# Altium schematic symbol library Receiver_Library.SchLib: 34 symbols
Pins are listed as number, name and electrical type; pins without a type are passive.

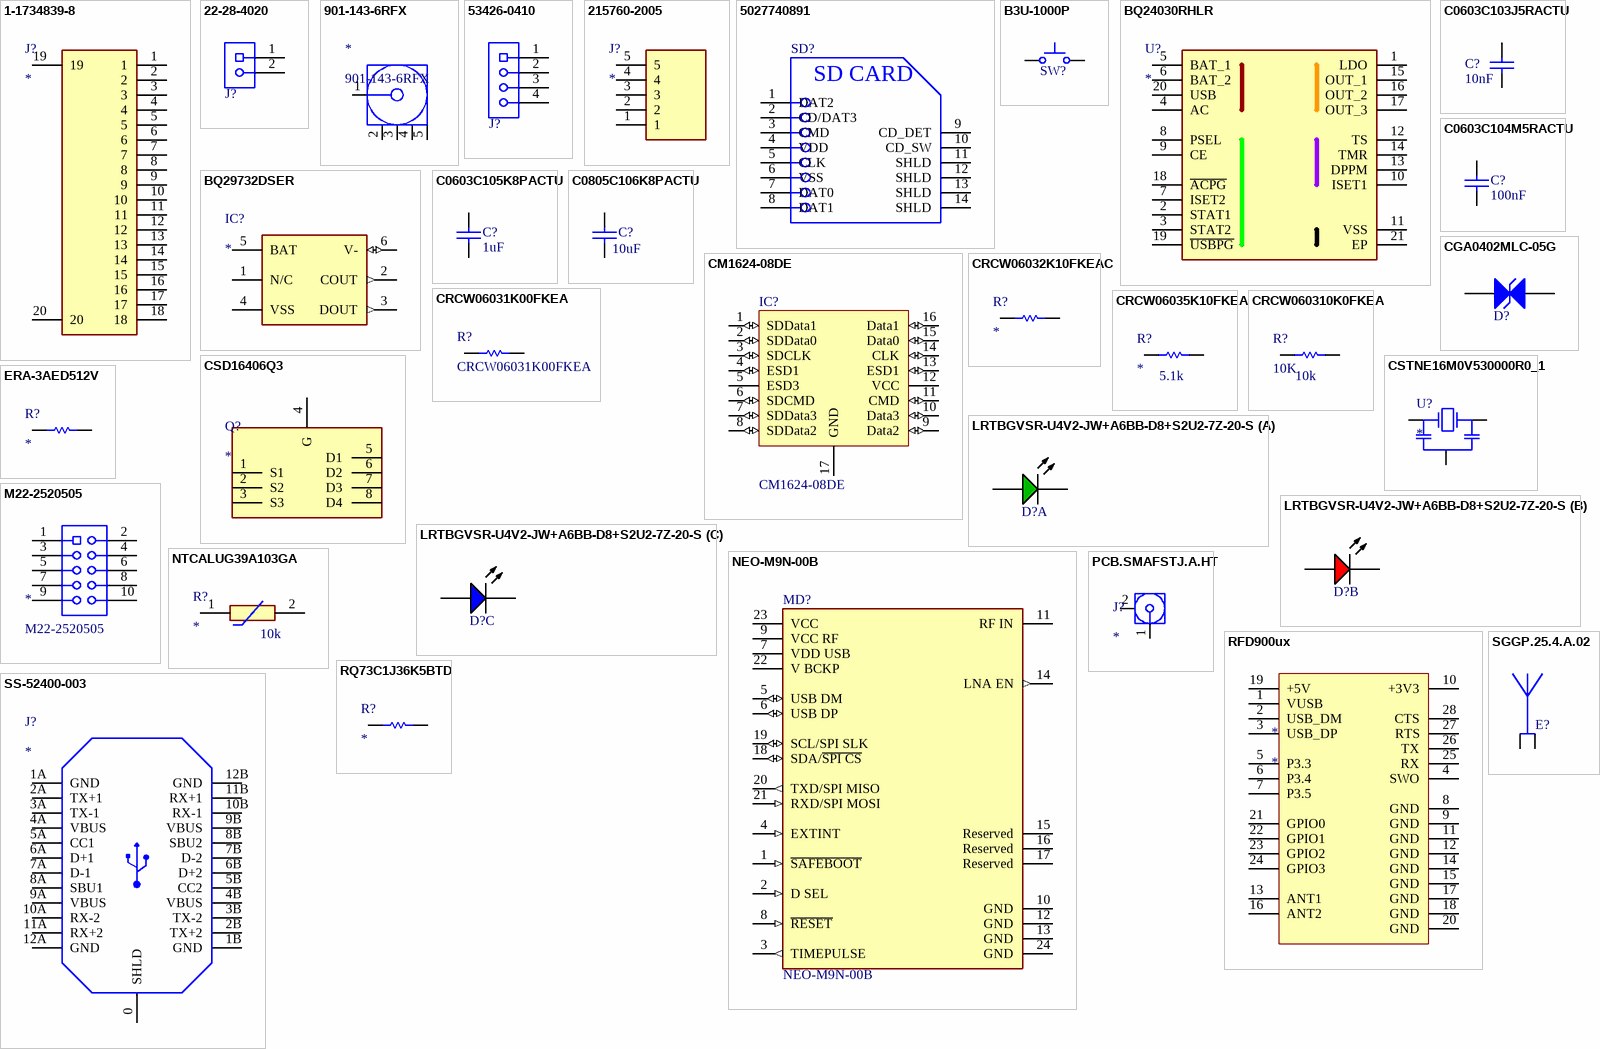
[diagram p0: symbols 1-1734839-8 to SS-52400-003]

## 1-1734839-8
designator J?
Connector; Manufacturer_Name: TE Connectivity; Manufacturer_Part_Number: 1-1734839-8; Datasheet Link: https://www.te.com/commerce/DocumentDelivery/DDEController?Action=showdoc&DocId=Customer+Drawing%7F1734839%7FC%7Fpdf%7FEnglish%7FENG_CD_1734839_C_C_1734839.pdf%7F1-1734839-8; Height: 2.05mm; Mouser Part Number: 571-1-1734839-8; Mouser Price/Stock: https://www.mouser.co.uk/ProductDetail/TE-Connectivity/1-1734839-8?qs=sXy4Dx%2FMQpOw5EO3e3m3KA%3D%3D; Arrow Part Number: 1-1734839-8; Arrow Price/Stock: https://www.arrow.com/en/products/1-1734839-8/te-connectivity
footprint 117348398
pins: 1, 2, 3, 4, 5, 6, 7, 8, 9, 10, 11, 12, 13, 14, 15, 16, 17, 18, 19, 20

## 22-28-4020
designator J?  (value not drawn)
KK 254 Breakaway Header, Vertical, 2 Circuits, Tin (Sn) Plating, Mating Pin Length 6.09mm 2 POS; Number of Positions: 2; Voltage Rating (DC): 250V; Contact Resistance: 20mR; Gender: Male; Connector Type: Male Pin; Glow Wire Compliant: Non-compliant; Pitch: 2.54mm; Current Rating: 4A; Orientation: Straight; Flammability Rating: UL94 V-0; Termination: Solder; Mount: Through Hole; Housing Color: Black; Contact Mating Length: 0.24inch; Min Operating Temperature: 0°C; Package Quantity: 1; Color: Black; Voltage Rating: 250V; REACH SVHC: Unknown; Contact Plating: Tin; Packaging: Bulk; Max Voltage Rating (DC): 250V; Max Operating Temperature: 75°C; Number of Circuits: 2; Housing Material: Nylon; Number of Contacts: 2; Lead Free: Lead Free; Radiation Hardening: No; Number of Rows: 1; Contact Material: Brass,Bronze; Mounting Technology: Through Hole; Depth: 2.49mm; Max Voltage Rating (AC): 250V; Series: KK® 42375; Contact Type: Male Pin
footprint 22-28-4020
pins: 1, 2

## 901-143-6RFX
designator *
SMA Connector Jack, Female Socket 50 Ohms Through Hole, Right Angle Solder
footprint 903-143-6RFX
pins: 1, 2, 3, 4, 5

## 53426-0410
designator J?  (value not drawn)
2.50mm Pitch Mini-Lock™ Wire-to-Board Header, Right Angle, Friction and Positive Lock, 4 Circuits; Gender: Male; Current Rating: 3A; Pitch: 2.5mm; Number of Positions: 4; Glow Wire Compliant: Non-compliant; Contact Resistance: 20mR; Voltage Rating: 250V; Packaging: Tray; Min Operating Temperature: -40°C; Number of Rows: 1; Case/Package: 0410; Housing Material: Polyester; Orientation: Right Angle; Color: White; Series: 53426; Contact Material: Bronze; Radiation Hardening: No; Number of Circuits: 4; REACH SVHC: No SVHC; Number of Contacts: 4; Contact Plating: Tin; Package Quantity: 1000; Termination: Through Hole; Max Operating Temperature: 105°C; Contact Gender: Male; Mount: Through Hole; RoHS Compliant: Yes
footprint 53426-0410
pins: 1, 2, 3, 4

## 215760-2005
designator J?
Connector; Manufacturer_Name: Molex; Manufacturer_Part_Number: 215760-2005; Datasheet Link: https://www.molex.com/pdm_docs/sd/2157601002_sd.pdf; Height: 5.87mm; Mouser Part Number: 538-215760-2005; Mouser Price/Stock: https://www.mouser.co.uk/ProductDetail/Molex/215760-2005?qs=pBJMDPsKWf1lOu66Lw3MIg%3D%3D
footprint 215760-YY05
pins: 1, 2, 3, 4, 5

## 5027740891
designator SD?  (value not drawn)
MOLEX   502774-0891.   MEMORY CARD CONNECTOR, MICROSD, 8POS; Current Rating: 500mA; Number of Contacts: 8; Pitch: 1.1mm; Gender: Male; Max Voltage Rating (DC): 1.01kV; Voltage Rating (AC): 10V; Max Operating Temperature: 85°C; Radiation Hardening: No; Depth: 16mm; Number of Rows: 1; Mount: Surface Mount,Reverse; Height: 1.8mm; Min Operating Temperature: -25°C; Length: 14.6mm; Package Quantity: 1; Contact Material: Copper Alloy,Copper; Housing Material: Polymer; Width: 1.8mm; Contact Plating: Gold; Orientation: Right Angle; Number of Circuits: 8; REACH SVHC: Unknown; Packaging: Tape and Reel; Halogen Free: Low Halogen; Termination: Solder; Connector Type: Connector
footprint 5027740891-Footprint-1
pins: 1 DAT2, 2 CD/DAT3, 3 CMD, 4 VDD, 5 CLK, 6 VSS, 7 DAT0, 8 DAT1, 9 CD_DET, 10 CD_SW, 11 SHLD, 12 SHLD, 13 SHLD, 14 SHLD
text: SD CARD

## B3U-1000P
designator SW?  (value not drawn)
SWITCH TACTILE SPST-NO 0.05A 12V; Actuator Length: 0.4mm; Contact Resistance: 100mR; Mechanical Life: 200000Cycles; Contact Current Rating: 50mA; Illumination Type: Non-Illuminated,Illuminated; Actuator Type: Standard; Ratings: Dust Proof,IP40; Switch Travel: 0.15mm; Throw Configuration: SPST; Operating Force: 1.5N; Switch Function: Off-Mom; Width: 3mm; REACH SVHC: Unknown; Max Voltage Rating (DC): 12V; Packaging: Tape and Reel; Mount: Surface Mount; Max Operating Temperature: 70°C; Min Operating Temperature: -25°C; Length: 4mm; Depth: 2.5mm; Termination: SMD/SMT; Contact Material: Silver; Weight: 0.000776oz; Current Rating: 50mA; Package Quantity: 1; Max Current Rating: 50mA; Lead Free: Lead Free; Voltage Rating (DC): 12V; Electrical Life: 200000Cycles; Insulation Resistance: 100MR; Orientation: Straight; Height: 1.2mm
footprint B3U-1000P
pins: 1, 2

## BQ24030RHLR
designator U?
Battery Management Charger w/Dynamic Power-Path Mngmnt; Manufacturer_Name: Texas Instruments; Manufacturer_Part_Number: BQ24030RHLR; Datasheet Link: http://www.ti.com/lit/gpn/bq24030; Mouser Part Number: 595-BQ24030RHLR; Mouser Price/Stock: https://www.mouser.co.uk/ProductDetail/Texas-Instruments/BQ24030RHLR/?qs=%252BvKcWiXw%252BzShgRCa3gfG7Q%3D%3D; Arrow Part Number: BQ24030RHLR; Arrow Price/Stock: https://www.arrow.com/en/products/bq24030rhlr/texas-instruments
footprint BQ51050BRHLR
pins: 1 LDO, 2 STAT1, 3 STAT2, 4 AC, 5 BAT_1, 6 BAT_2, 7 ISET2, 8 PSEL, 9 CE, 10 ISET1, 11 VSS, 12 TS, 13 DPPM, 14 TMR, 15 OUT_1, 16 OUT_2, 17 OUT_3, 18 ~{ACPG}, 19 ~{USBPG}, 20 USB, 21 EP

## BQ29732DSER
designator IC?
Integrated Circuit; Manufacturer_Name: Texas Instruments; Manufacturer_Part_Number: BQ29732DSER; Datasheet Link: http://www.ti.com/lit/gpn/bq2973; Height: 0.8mm; Mouser Part Number: 595-BQ29732DSER; Mouser Price/Stock: https://www.mouser.co.uk/ProductDetail/Texas-Instruments/BQ29732DSER?qs=HjC056NR38EUdABiMgTGbg%3D%3D; Arrow Part Number: BQ29732DSER; Arrow Price/Stock: https://www.arrow.com/en/products/bq29732dser/texas-instruments?region=nac
footprint SON50P150X150X80-6N
pins: 1 N/C, 2 COUT (out), 3 DOUT (out), 4 VSS (power), 5 BAT (power), 6 V- (io)

## C0603C103J5RACTU
designator C?  value 10nF  (hidden comment: C0603C103J5RACTU)
Cap Ceramic 0.01uF 50V X7R 5% SMD 0603 125C Paper T/R; Dielectric: X7R; Case/Package: 0603; Height: 0.8mm; Capacitance: 10nF; Depth: 0.8mm; Length: 1.6mm; Min Operating Temperature: -55°C; Radiation Hardening: No; Packaging: Tape and Reel; Max Operating Temperature: 125°C; Mount: Surface Mount; Tolerance: 5%; JLC_PN: C57112
footprint CAPC1608X10N
pins: 1, 2

## C0603C104M5RACTU
designator C?  value 100nF  (hidden comment: C0603C104M5RACTU)
Cap Ceramic 0.1uF 50V X7R 20% SMD 0603 125C T/R; Dissipation Factor: 2.5%; Min Operating Temperature: -55°C; Contact Plating: Tin,Matte; Height: 0.8mm; Voltage Rating: 50V; REACH SVHC: No SVHC; Max Operating Temperature: 125°C; Termination: SMD/SMT; Package Quantity: 1; Capacitance: 100nF; Packaging: Tape and Reel; Width: 0.031inch; Depth: 0.8mm; Dielectric: X7R; Tolerance: 20%; Lead Pitch: 0.7mm; Thickness: 0.034inch; Length: 1.6mm; Dielectric Material: Ceramic; Radiation Hardening: No; Voltage Rating (DC): 50V; Case/Package: 0603; Case Code (Metric): 1608; Mount: Surface Mount,PCB; Case Code (Imperial): 0603; JLC_PN: C14663
footprint CAPC1608X10N
pins: 1, 2

## C0603C105K8PACTU
designator C?  value 1uF  (hidden comment: C0603C105K8PACTU)
Cap Ceramic 1uF 10V X5R 10% SMD 0603 85°C Paper T/R; Capacitance: 1uF; Voltage Rating (DC): 10V; Case/Package: 0603; Height: 0.8mm; Tolerance: 10%; Width: 0.031inch; Lead Free: Lead Free; Mount: Surface Mount; Length: 1.6mm; Number of Pins: 2; Radiation Hardening: No; Dielectric: X5R; Voltage: 10V; Depth: 0.8mm; Weight: 7.1E-05oz; REACH SVHC: No SVHC; Package Quantity: 1; Max Operating Temperature: 85°C; Case Code (Imperial): 0603; Thickness: 0.035inch; Min Operating Temperature: -55°C; Dielectric Material: Ceramic; Case Code (Metric): 1608; Packaging: Tape and Reel; Voltage Rating: 10V; Termination: SMD/SMT
footprint CAPC1608X10N (Chip Capacitor, 2-Leads, Body 1.60x0.80mm, IPC Medium Density)
pins: 1, 2

## C0805C106K8PACTU
designator C?  value 10uF  (hidden comment: C0805C106K8PACTU)
CAP CER 10UF 10V X5R 0805; Dielectric Material: Ceramic; Dissipation Factor: 10%; Width: 1.2mm; Number of Pins: 2; Voltage: 10V; Packaging: Tape and Reel; Dielectric: X5R; Mount: Surface Mount; Case/Package: 0805; Thickness: 0.055inch; Package Quantity: 1; Voltage Rating (DC): 10V; Case Code (Imperial): 0805; Tolerance: 10%; Max Operating Temperature: 85°C; Radiation Hardening: No; Termination: SMD/SMT; Height: 1.25mm; Voltage Rating: 10V; Capacitance: 10uF; Length: 2mm; Min Operating Temperature: -55°C; Depth: 1.25mm; REACH SVHC: No SVHC; Case Code (Metric): 2012; Contact Plating: Tin,Matte; JLC_PN: C15850
footprint CAPC2012X14N
pins: 1, 2

## CGA0402MLC-05G
designator D?  (value not drawn)
ESD Suppressor TVS 5V Automotive 2-Pin Case 0402 T/R; Direction: Bidirectional; Number of Circuits: 1; Capacitance: 0.2pF; Clamping Voltage: 30V; Element Configuration: Single; ESD Protection: Yes; Leakage Current: 10nA; Max Reverse Leakage Current: 5nA; Package Quantity: 10000; Operating Supply Voltage: 5V; Max Operating Temperature: 125°C; Max Voltage Rating (DC): 5V; Mount: Surface Mount; Depth: 0.5mm; Length: 1mm; Width: 0.5mm; Voltage Rating (DC): 5V; Number of Pins: 2; Termination: SMD/SMT; Min Operating Temperature: -55°C; REACH SVHC: No SVHC; Case/Package: 0402; Working Voltage: 5V; Radiation Hardening: No; Height: 0.34mm; Packaging: Tape and Reel; Contact Plating: Tin; Case Code (Imperial): 0402; Case Code (Metric): 1005; Current Rating: 5nA
footprint DIOC1005X04N (Chip Diode, 2-Leads, Body 1.00x0.50mm, IPC Medium Density)
footprint DIOC1005X04N
pins: 1, 2

## CM1624-08DE
designator IC?
EMI Filter Flat Style SMD T/R; Capacitance: 20pF; Operating Supply Voltage: 5V; ESD Protection: Yes; Clamping Voltage: 9V; DC Resistance (DCR): 40R; Number of Channels: 6; Number of Lines: 8; Direction: Bidirectional; Depth: 1.45mm; Length: 3.4mm; Height: 0.022inch; Halogen Free: Halogen Free; REACH SVHC: No SVHC; Contact Plating: Tin,Matte; Number of Pins: 16; Termination: Flat; Package Quantity: 1; Min Operating Temperature: -40°C; Lead Free: Lead Free; Packaging: Tape and Reel; Case/Package: DFN; Max Operating Temperature: 85°C; Width: 1.35mm
footprint SON40P140X55_HS-17N
pins: 1 SDData1 (io), 2 SDData0 (io), 3 SDCLK (io), 4 ESD1 (io), 5 ESD3, 6 SDCMD (io), 7 SDData3 (io), 8 SDData2 (io), 9 Data2 (io), 10 Data3 (io), 11 CMD (io), 12 VCC (power), 13 ESD1 (io), 14 CLK (io), 15 Data0 (io), 16 Data1 (io), 17 GND (power)

## CRCW06031K00FKEA
designator R?
VISHAY - CRCW06031K00FKEA - SMD Chip Resistor, 0603 [1608 Metric], 1 kohm, CRCW e3 Series, 75 V, Thick Film, 100 mW; Value: 5.1k
footprint 0603 (Generic 0603 Footprint)
pins: 1, 2

## CRCW06032K10FKEAC
designator R?
Thick Film Resistors - SMD 1/10Watt 2.1Kohms 1%; Value: 2.1k
footprint 0603 (Generic 0603 Footprint)
pins: 1, 2

## CRCW06035K10FKEA
designator R?  value 5.1k
Res Thick Film 0603 5.1K Ohm 1% 1/10W ±100ppm/°C Molded SMD SMD Paper T/R
footprint 0603 (Generic 0603 Footprint)
pins: 1, 2

## CRCW060310K0FKEA
designator R?, comment 10K
RES SMD 10K OHM 0.5% 1/10W 0603; Value: 10k
footprint 0603 (Generic 0603 Footprint)
pins: 1, 2

## CSD16406Q3
designator Q?
MOSFET (N-Channel); Manufacturer_Name: Texas Instruments; Manufacturer_Part_Number: CSD16406Q3; Datasheet Link: http://www.ti.com/lit/gpn/csd16406q3; Mouser Part Number: 595-CSD16406Q3; Mouser Price/Stock: https://www.mouser.co.uk/ProductDetail/Texas-Instruments/CSD16406Q3?qs=SuDOdTVxq4Wogv4PDdDFZA%3D%3D; Arrow Part Number: CSD16406Q3; Arrow Price/Stock: https://www.arrow.com/en/products/csd16406q3/texas-instruments?region=nac
footprint DQG_VSON-CLIP
pins: 1 S1, 2 S2, 3 S3, 4 G, 5 D1, 6 D2, 7 D3, 8 D4

## CSTNE16M0V530000R0_1
designator U?
Resonators 16.0 MHZ 15PF; Manufacturer_Name: Murata Electronics; Manufacturer_Part_Number: CSTNE16M0V530000R0; Datasheet Link: https://www.murata.com/products/productdata/8801160822814/SPEC-CSTNE16M0V530000R0.pdf; Height: 1mm; Mouser Part Number: 81-CSTNE16M0V530000R; Mouser Price/Stock: https://www.mouser.co.uk/ProductDetail/Murata-Electronics/CSTNE16M0V530000R0?qs=y6ZabgHbY%252BzQcQICtMt%2F3w%3D%3D; Arrow Part Number: CSTNE16M0V530000R0; Arrow Price/Stock: https://www.arrow.com/en/products/cstne16m0v530000r0/murata-manufacturing?region=nac
footprint FP-CSTNE16M0V530000R0-MFG
pins: 1 INPUT, 2 GND, 3 OUT

## ERA-3AED512V
designator R?
Thin Film Resistors - SMD 0603 5100ohms 25ppm 0.5% AEC-Q200; Value: 5.1k
footprint 0603 (Generic 0603 Footprint)
pins: 1, 2

## LRTBGVSR-U4V2-JW+A6BB-D8+S2U2-7Z-20-S
designator D?  (value not drawn)
LED Multicolor Red/True Green/Blue 626nm/528nm/465nm 40mA/50mA/50mA 6-Pin SMD T/R
footprint LRTBGVSG-UEVE-24+AMAQ-29+SCUC-HR-Footprint-1
part A pins: 1 K1, 6 A1
part B pins: 4 K2, 5 A2
part C pins: 2 A3, 3 K3

## M22-2520505
designator *
Connector Header Through Hole 10 position 0.079" (2.00mm)
footprint M22-2520505
pins: 1 VDD, 2 SWDIO, 3 GND, 4 SWCLK, 5 GND, 6 SWO, 7 NC, 8 NC, 9 GND, 10 NRST

## NEO-M9N-00B
designator MD?
M9 standard precision module; Manufacturer: u-blox; Min Supply Voltage: 1.65V; Sensitivity: -167dBm; Interface: I2C,SPI,UART,USB; Max Supply Voltage: 3.6V; Device Class L3: RF Receivers; Category: UNK; Temperature Range Low: -40°C; Temperature Range High: +85°C; ComponentLink2Description: Datasheet; Manufacturer Part Number: NEO-M9N-00B; ComponentLink2URL: https://www.u-blox.com/sites/default/files/NEO-M9N_DataSheet_%28UBX-19014285%29.pdf; Footprint Url: https://www.u-blox.com/sites/default/files/NEO-M9N_Integrationmanual_%28UBX-19014286%29.pdf; Height: 2.6mm; Automotive: No; RoHS: TRUE; Lead Free: Yes; Octopart: https://octopart.com/neo-m9n-00b-u-blox-107315722; Package: 0; Temperature: -40°C to +85°C; Device Class L1: Integrated Circuits (ICs); Device Class L2: RF Semiconductors and Devices
footprint FP-NEO-M9N-00B-MFG
pins: 1 ~{SAFEBOOT} (in), 2 D SEL (in), 3 TIMEPULSE (out), 4 EXTINT (in), 5 USB DM (io), 6 USB DP (io), 7 VDD USB (power), 8 ~{RESET} (in), 9 VCC RF (power), 10 GND (power), 11 RF IN, 12 GND (power), 13 GND (power), 14 LNA EN (out), 15 Reserved, 16 Reserved, 17 Reserved, 18 SDA/~{SPI CS} (io), 19 SCL/SPI SLK (io), 20 TXD/SPI MISO (out), 21 RXD/SPI MOSI (in), 22 V BCKP (power), 23 VCC (power), 24 GND (power)

## NTCALUG39A103GA
designator R?  value 10k
NTC (Negative Temperature Coefficient) Thermistors 10K/2% 3984K/0.5% AEC-Q200 70mm; Beta Parameter: 3984 K; Tolerance: 2%; Voltage Rating: 1kV; RoHS Compliant: RoHS; Case/Package: Wire Lead; Max Operating Temperature: 125°C; Mounting Technology: Ring Lug; Min Operating Temperature: -40°C; Pins: 2
footprint NTCALUG03A103GA
pins: 1, 2

## PCB.SMAFSTJ.A.HT
designator J?
Connector; Manufacturer_Name: Taoglas; Manufacturer_Part_Number: PCB.SMAFSTJ.A.HT; Datasheet Link: https://cdn.taoglas.com/datasheets/PCB.SMAFSTJ.A.HT.pdf; Height: 9.2mm; Mouser Part Number: 960-PCB.SMAFST.J.AHT; Mouser Price/Stock: https://www.mouser.co.uk/ProductDetail/Taoglas/PCB.SMAFSTJ.A.HT?qs=AL7xPqYNrmSUJ6PdhJao%252BA%3D%3D; Arrow Part Number: PCB.SMAFSTJ.A.HT; Arrow Price/Stock: https://www.arrow.com/en/products/pcb.smafstj.a.ht/taoglas?region=nac
footprint PCBSMAFSTJAHT - duplicate
pins: 1, 2

## RFD900ux
designator *
LoRA Transceiver
footprint RFD900UX
pins: 1 VUSB, 2 USB_DM, 3 USB_DP, 4 SWO, 5 P3.3, 6 P3.4, 7 P3.5, 8 GND, 9 GND, 10 +3V3, 11 GND, 12 GND, 13 ANT1, 14 GND, 15 GND, 16 ANT2, 17 GND, 18 GND, 19 +5V, 20 GND, 21 GPIO0, 22 GPIO1, 23 GPIO2, 24 GPIO3, 25 RX, 26 TX, 27 RTS, 28 CTS

## RQ73C1J36K5BTD
designator R?
Thin Film Resistors - SMD RN 0603 36K5 0.1% 10PPM; Value: 36.5k
footprint 0603 (Generic 0603 Footprint)
pins: 1, 2

## SGGP.25.4.A.02
designator E?  (value not drawn)
ANTENNA GPS CERAMIC PATCH SMD; Max Frequency: 1.607GHz; Impedance: 50R; Number of Bands: 2; Mount: Surface Mount; Case/Package: SMD/SMT; Package Quantity: 200; Height: 0.177inch; Termination: Solder
footprint SGGP.25.4.A.02-Footprint-1
pins: 1 ANT, 2 GND

## SS-52400-003
designator J?
USB Type-C Receptacle for 1.60mm PCB; Manufacturer_Name: BelFuse; Manufacturer_Part_Number: SS-52400-005; Datasheet Link: https://www.belfuse.com/resources/drawings/stewartconnector/dr-STW-SS-52400-005.pdf; Mouser Part Number: 530-SS-52400-005; Mouser Price/Stock: https://www.mouser.co.uk/ProductDetail/Stewart-Connector-Bel/SS-52400-005?qs=Wj%2FVkw3K%252BMC%2FVoWwkQ%252BKYA%3D%3D
footprint SS52400005
pins: 0 SHLD, 1A GND, 1B GND, 2A TX+1, 2B TX+2, 3A TX-1, 3B TX-2, 4A VBUS, 4B VBUS, 5A CC1, 5B CC2, 6A D+1, 6B D+2, 7A D-1, 7B D-2, 8A SBU1, 8B SBU2, 9A VBUS, 9B VBUS, 10A RX-2, 10B RX-1, 11A RX+2, 11B RX+1, 12A GND, 12B GND

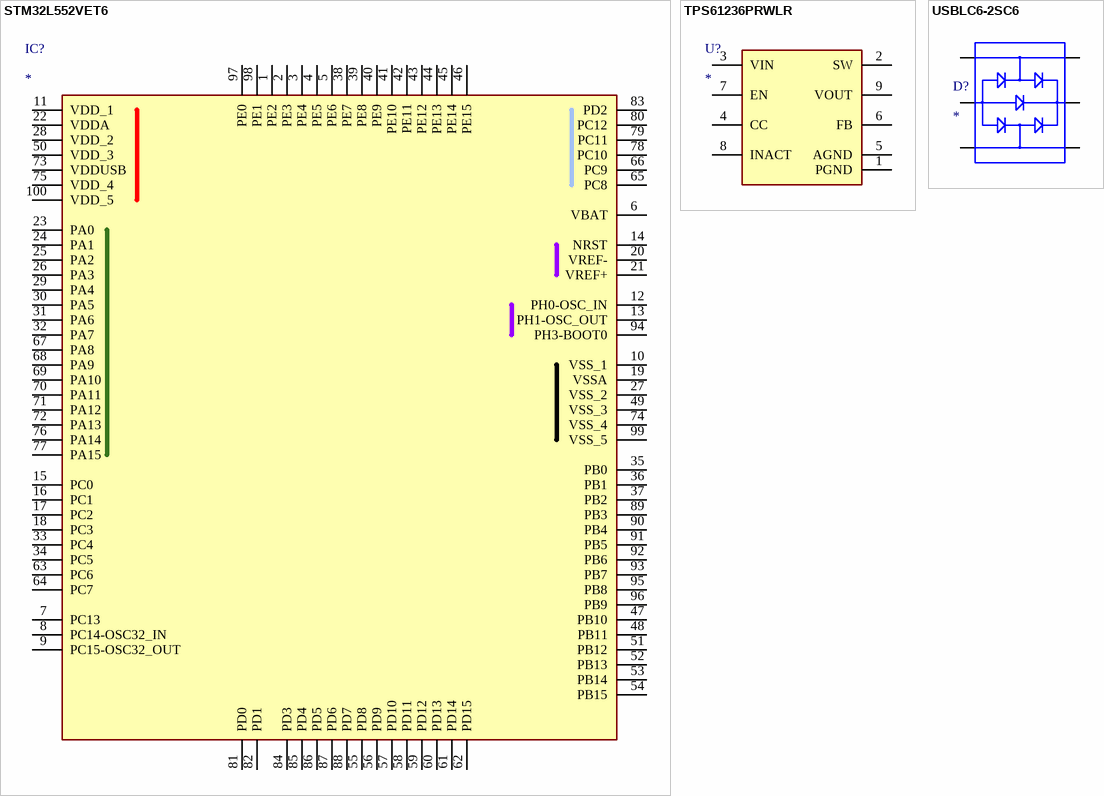
[diagram p1: symbols STM32L552VET6 to USBLC6-2SC6]

## STM32L552VET6
designator IC?
Integrated Circuit; Manufacturer_Name: STMicroelectronics; Manufacturer_Part_Number: STM32L552VET6; Datasheet Link: https://www.st.com/resource/en/datasheet/stm32l552cc.pdf; Height: 1.6mm; Mouser Part Number: 511-STM32L552VET6; Mouser Price/Stock: https://www.mouser.co.uk/ProductDetail/STMicroelectronics/STM32L552VET6?qs=%252B6g0mu59x7JvngnoIPuHpg%3D%3D; Arrow Part Number: STM32L552VET6; Arrow Price/Stock: https://www.arrow.com/en/products/stm32l552vet6/stmicroelectronics?region=nac
footprint QFP50P1600X1600X160-100N
pins: 1 PE2, 2 PE3, 3 PE4, 4 PE5, 5 PE6, 6 VBAT, 7 PC13, 8 PC14-OSC32_IN, 9 PC15-OSC32_OUT, 10 VSS_1, 11 VDD_1, 12 PH0-OSC_IN, 13 PH1-OSC_OUT, 14 NRST, 15 PC0, 16 PC1, 17 PC2, 18 PC3, 19 VSSA, 20 VREF-, 21 VREF+, 22 VDDA, 23 PA0, 24 PA1, 25 PA2, 26 PA3, 27 VSS_2, 28 VDD_2, 29 PA4, 30 PA5, 31 PA6, 32 PA7, 33 PC4, 34 PC5, 35 PB0, 36 PB1, 37 PB2, 38 PE7, 39 PE8, 40 PE9, 41 PE10, 42 PE11, 43 PE12, 44 PE13, 45 PE14, 46 PE15, 47 PB10, 48 PB11, 49 VSS_3, 50 VDD_3, 51 PB12, 52 PB13, 53 PB14, 54 PB15, 55 PD8, 56 PD9, 57 PD10, 58 PD11, 59 PD12, 60 PD13, 61 PD14, 62 PD15, 63 PC6, 64 PC7, 65 PC8, 66 PC9, 67 PA8, 68 PA9, 69 PA10, 70 PA11, 71 PA12, 72 PA13, 73 VDDUSB, 74 VSS_4, 75 VDD_4, 76 PA14, 77 PA15, 78 PC10, 79 PC11, 80 PC12, 81 PD0, 82 PD1, 83 PD2, 84 PD3, 85 PD4, 86 PD5, 87 PD6, 88 PD7, 89 PB3, 90 PB4, 91 PB5, 92 PB6, 93 PB7, 94 PH3-BOOT0, 95 PB8, 96 PB9, 97 PE0, 98 PE1, 99 VSS_5, 100 VDD_5

## TPS61236PRWLR
designator U?
Switching Voltage Regulators 8-A valley current, adjustable output voltage synchronous boost converters 9-VQFN-HR -40 to 85; Manufacturer_Name: Texas Instruments; Manufacturer_Part_Number: TPS61236PRWLR; Datasheet Link: http://www.ti.com/lit/ds/symlink/tps61236p.pdf; Mouser Part Number: 595-TPS61236PRWLR; Mouser Price/Stock: https://www.mouser.co.uk/ProductDetail/Texas-Instruments/TPS61236PRWLR?qs=LuYMPh7GGMSj5RXH1N1%2Fpw%3D%3D; Arrow Part Number: TPS61236PRWLR; Arrow Price/Stock: https://www.arrow.com/en/products/tps61236prwlr/texas-instruments?region=nac
footprint TPS61235PRWLT
pins: 1 PGND, 2 SW, 3 VIN, 4 CC, 5 AGND, 6 FB, 7 EN, 8 INACT, 9 VOUT

## USBLC6-2SC6
designator D?
ESD Suppressors / TVS Diodes ESD Protection Low Cap
footprint USBLC6-2SC6
pins: 1, 2, 3, 4, 5, 6